# EAGLE library part HYPERFLASH_MEMORY (library hyperflash)
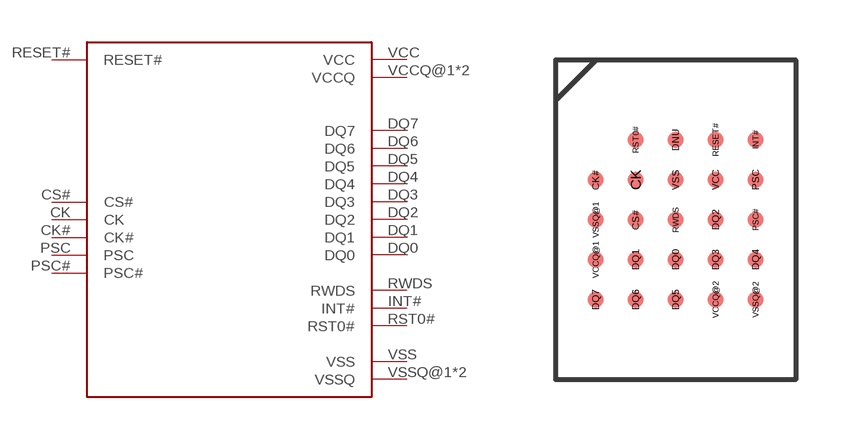
[diagram p0: symbol with the pads of BGA-24; footprint BGA-24]

Designator prefix -

## HYPERFLASH_MEMORY  [BGA-24]
CK  CK
CK#  CK#
CS#  CS#
DQ0  DQ0
DQ1  DQ1
DQ2  DQ2
DQ3  DQ3
DQ4  DQ4
DQ5  DQ5
DQ6  DQ6
DQ7  DQ7
INT#  INT#
PSC  PSC
PSC#  PSC#
RESET#  RESET#
RST0#  RST0#
RWDS  RWDS
VCC  VCC
VCCQ@1  VCCQ
VCCQ@2  VCCQ
VSS  VSS
VSSQ@1  VSSQ
VSSQ@2  VSSQ

## Footprint BGA-24 (pad centres in mm)
smd 0.4 x 0.4: CK -1.07,1.016; CK# -2.07,1.016; CS# -1.07,0.016; DNU -0.07,2.016; DQ0 -0.07,-0.984; DQ1 -1.07,-0.984; DQ2 0.93,0.016; DQ3 0.93,-0.984; DQ4 1.93,-0.984; DQ5 -0.07,-1.984; DQ6 -1.07,-1.984; DQ7 -2.07,-1.984; INT# 1.93,2.016; PSC 1.93,1.016; PSC# 1.93,0.016; RESET# 0.93,2.016; RST0# -1.07,2.016; RWDS -0.07,0.016; VCC 0.93,1.016; VCCQ@1 -2.07,-0.984; VCCQ@2 0.93,-1.984; VSS -0.07,1.016; VSSQ@1 -2.07,0.016; VSSQ@2 1.93,-1.984